# EAGLE library part TPS61088RHLT (library TPS61088)
TPS61088
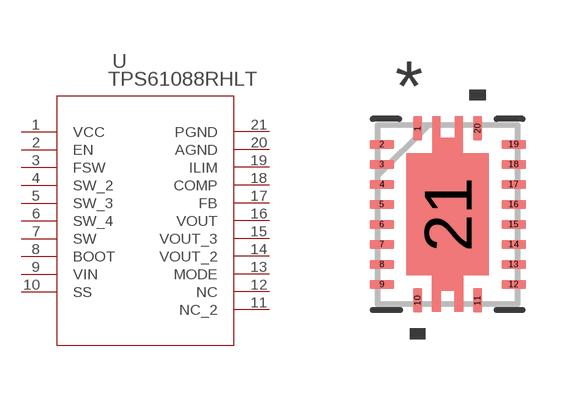
[diagram p0: symbol with the pads of RHL0020A_TEX; footprint RHL0020A_TEX]

Designator prefix U

## TPS61088RHLT (BUILT_BY: EMA_UL_Team; COPYRIGHT: Copyright (C) 2018 Accelerated Designs. All rights reserved; MANUFACTURER_PART_NUMBER: TPS61088RHLT; SOURCELIBRARY: TI_2019-03-28; VENDOR: Texas Instruments)  [RHL0020A_TEX]
1  VCC  pwr
2  EN  in
3  FSW  in
4  SW_2  pwr
5  SW_3  pwr
6  SW_4  pwr
7  SW  pwr
8  BOOT  pwr
9  VIN  pwr
10  SS  in
11  NC_2  pas
12  NC  pas
13  MODE  in
14  VOUT_2  pwr
15  VOUT_3  pwr
16  VOUT  pwr
17  FB  in
18  COMP  out
19  ILIM  in
20  AGND  pwr
21  PGND  pwr

## Footprint RHL0020A_TEX (pad centres in mm)
smd 0.229 x 0.61: 1 -0.75,2.15; 10 -0.75,-2.15; 11 0.75,-2.15; 20 0.75,2.15
smd 0.61 x 0.229: 2 -1.65,1.75; 3 -1.65,1.25; 4 -1.65,0.75; 5 -1.65,0.25; 6 -1.65,-0.25; 7 -1.65,-0.75; 8 -1.65,-1.25; 9 -1.65,-1.75; 12 1.65,-1.75; 13 1.65,-1.25; 14 1.65,-0.75; 15 1.65,-0.25; 16 1.65,0.25; 17 1.65,0.75; 18 1.65,1.25; 19 1.65,1.75
smd 2.057 x 3.048: 21 0,0